# EAGLE library part LT8705 (library borkedlabs-powerics)
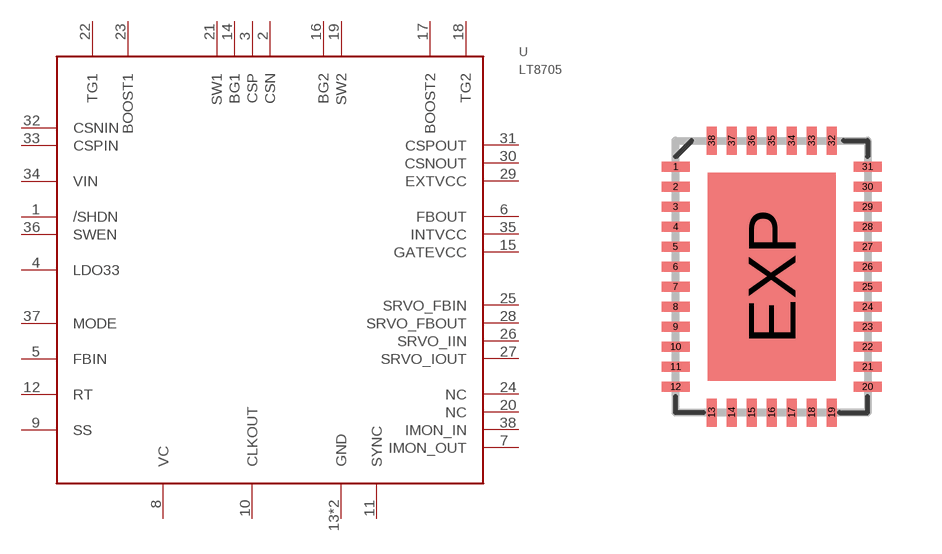
[diagram p5: symbol with the pads of QFN38-5X7; footprint QFN38-5X7]

Designator prefix U

## LT8705EUHF  [QFN38-5X7]
1  /SHDN
2  CSN
3  CSP
4  LDO33
5  FBIN
6  FBOUT
7  IMON_OUT
8  VC
9  SS
10  CLKOUT
11  SYNC
12  RT
13  GND
14  BG1
15  GATEVCC
16  BG2
17  BOOST2
18  TG2
19  SW2
20  NC
21  SW1
22  TG1
23  BOOST1
24  NC
25  SRVO_FBIN
26  SRVO_IIN
27  SRVO_IOUT
28  SRVO_FBOUT
29  EXTVCC
30  CSNOUT
31  CSPOUT
32  CSNIN
33  CSPIN
34  VIN
35  INTVCC
36  SWEN
37  MODE
38  IMON_IN
EXP  GND

## Footprint QFN38-5X7 (pad centres in mm)
UHF Package 38-Lead Plastic QFN (5mm × 7mm) (Reference LTC DWG # 05-08-1701) Source: Data sheet <http://cds.linear.com/docs/Datasheet/2444589fb.pdf>
smd 0.7 x 0.25: 1 -2.4,2.75; 2 -2.4,2.25; 3 -2.4,1.75; 4 -2.4,1.25; 5 -2.4,0.75; 6 -2.4,0.25; 7 -2.4,-0.25; 8 -2.4,-0.75; 9 -2.4,-1.25; 10 -2.4,-1.75; 11 -2.4,-2.25; 12 -2.4,-2.75; 20 2.4,-2.75; 21 2.4,-2.25; 22 2.4,-1.75; 23 2.4,-1.25; 24 2.4,-0.75; 25 2.4,-0.25; 26 2.4,0.25; 27 2.4,0.75; 28 2.4,1.25; 29 2.4,1.75; 30 2.4,2.25; 31 2.4,2.75
smd 0.25 x 0.7: 13 -1.5,-3.4; 14 -1,-3.4; 15 -0.5,-3.4; 16 0,-3.4; 17 0.5,-3.4; 18 1,-3.4; 19 1.5,-3.4; 32 1.5,3.4; 33 1,3.4; 34 0.5,3.4; 35 0,3.4; 36 -0.5,3.4; 37 -1,3.4; 38 -1.5,3.4
smd 3.2 x 5.2: EXP 0,0